# Altium schematic symbol library G2RS_SERIES.SchLib: 1 symbol
Pins are listed as number, name and electrical type; pins without a type are passive.

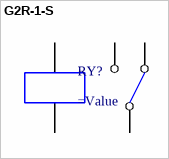
[diagram p0: symbol G2R-1-S]

## G2R-1-S
designator RY?
pins: 1 B1, 2 NC1, 3 NA1, 4 C1, 5 B2